# EAGLE library part MQ-3 (library MQ)
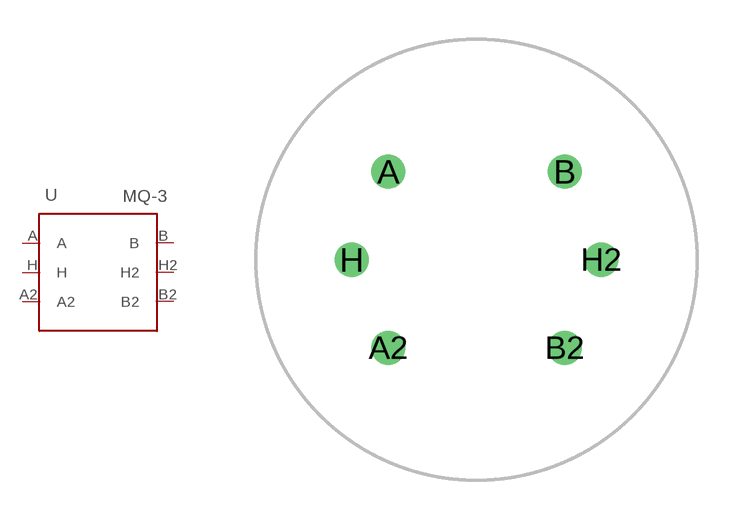
[diagram p0: symbol with the pads of MQ-3; footprint MQ-3]

Designator prefix -

## MQ-3MQ3  [MQ-3]
A  A
A2  A2
B  B
B2  B2
H  H
H2  H2

## Footprint MQ-3 (pad centres in mm)
drill 0.8 round: A -3.359,3.359; A2 -3.359,-3.359; B 3.359,3.359; B2 3.359,-3.359; H -4.75,0; H2 4.75,0